# Altium footprint library PcbLib1.PcbLib: 38 footprints (part 3 of 3)
Each footprint in its own frame and in the unit in brackets; x right, y up, seen from the top. Pads: shape width x height; smd on the part's side, far side on the other; paste and mask are expansions set on the pad; w line width, h text height; cw(c..) or ccw(c..) is an arc to the next point about the centre after c.
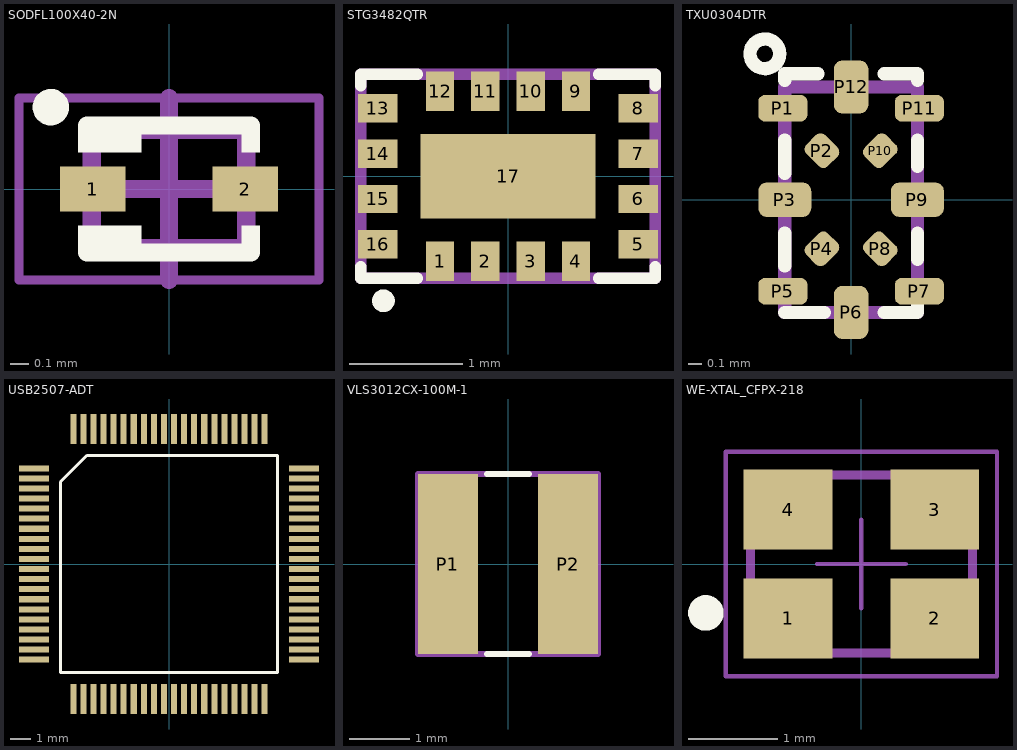
[diagram p2: the footprints below, top view; thin cyan lines are the x and y axes]

## SODFL100X40-2N [mm]
pads (2):
  rect 0.36x0.25 smd: 1(-0.42,0) 2(0.42,0)
Top Overlay:
  circle w0.1: c-0.65,0.45 r0.05
  rectangle: -0.5,0.2 -0.15,0.325
  rectangle: -0.5,-0.35 -0.15,-0.2
  rectangle: 0.4,-0.35 0.5,-0.2
  rectangle: 0.4,0.2 0.5,0.35
  lines w0.1: -0.45,-0.3 -0.45,-0.35 0.45,-0.35 0.45,-0.3 ; -0.45,0.3 -0.45,0.35 0.45,0.35 0.45,0.3
Top Designator:
  text ".Designator" at -0.724,-0.177 h0.38
Top Component Outline:
  lines w0.1: -0.425,-0.325 0.425,-0.325 0.425,0.325 -0.425,0.325 -0.425,-0.325
Top Courtyard:
  lines w0.05: -0.825,-0.5 -0.825,0.5 0.825,0.5 0.825,-0.5 -0.825,-0.5
  lines w0.1: -0.5,0 0.5,0 ; 0,-0.5 0,0.5
3D body "SODFL100X40-2N.step": height 0.4, standoff 0, extent -0.5,-0.325 0.5,0.325

## STG3482QTR [mm]
height 0.5
pads (17):
  rect 0.25x0.35 smd: 1(-0.6,-0.75) 2(-0.2,-0.75) 3(0.2,-0.75) 4(0.6,-0.75) 9(0.6,0.75) 10(0.2,0.75) 11(-0.2,0.75) 12(-0.6,0.75)
  rect 0.35x0.25 smd: 5(1.15,-0.6) 6(1.15,-0.2) 7(1.15,0.2) 8(1.15,0.6) 13(-1.15,0.6) 14(-1.15,0.2) 15(-1.15,-0.2) 16(-1.15,-0.6)
  rect 1.55x0.75 smd: 17(0,0)
Top Overlay:
  circle w0.1: c-1.1,-1.1 r0.05
  lines w0.1: -1.3,-0.8 -1.3,-0.9 -0.8,-0.9 ; -1.3,0.8 -1.3,0.9 -0.8,0.9 ; 0.8,-0.9 1.3,-0.9 1.3,-0.8 ; 0.8,0.9 1.3,0.9 1.3,0.8
Top Designator:
  text ".Designator" at 0,0 h0.6
Top Assembly:
  lines w0.1: -1.3,-0.9 -1.3,0.9 1.3,0.9 1.3,-0.9 -1.3,-0.9
Top Component Outline:
  lines w0.1: -1.3,-0.9 -1.3,0.9 1.3,0.9 1.3,-0.9 -1.3,-0.9

## TXU0304DTR [mm]
height 0.4
pads (12):
  rrect50% 0.37x0.2 smd mask+0.05: P1(-0.515,0.69) P5(-0.515,-0.69) P7(0.515,-0.69) P11(0.515,0.69)
  rrect50% 0.2x0.23 smd rot 45 mask+0.05: P2(-0.22,0.37) P8(0.22,-0.37)
  rrect50% 0.4x0.26 smd mask+0.05: P3(-0.5,0) P9(0.5,0)
  rrect50% 0.2x0.23 smd rot 135 mask+0.05: P4(-0.22,-0.37) P10(0.22,0.37)
  rrect50% 0.26x0.4 smd mask+0.05: P6(0,-0.85) P12(0,0.85)
Top Overlay:
  circle w0.1: c-0.65,1.1 r0.112
  lines w0.1: -0.5,-0.85 -0.2,-0.85 ; -0.5,-0.5 -0.5,-0.25 ; -0.5,0.2 -0.5,0.45 ; -0.5,0.9 -0.5,0.95 -0.25,0.95 ; 0.25,-0.85 0.5,-0.85 0.5,-0.8 ; 0.25,0.95 0.5,0.95 0.5,0.9 ; 0.5,-0.45 0.5,-0.25 ; 0.5,0.25 0.5,0.45
Top Designator:
  text ".Designator" at 0.1,0.3 h0.6
Top Assembly:
  lines w0.1: -0.5,-0.85 0.5,-0.85 0.5,0.85 -0.5,0.85 -0.5,-0.85
Top Component Outline:
  lines w0.1: -0.5,-0.85 0.5,-0.85 0.5,0.85 -0.5,0.85 -0.5,-0.85
3D body: height 0.4, standoff 0, extent -0.5,-0.85 0.5,0.85

## USB2507-ADT [mm]
pads (80):
  rect 1.5x0.3 smd: 1(-6.7,4.75) 2(-6.7,4.25) 3(-6.7,3.75) 4(-6.7,3.25) 5(-6.7,2.75) 6(-6.7,2.25) 7(-6.7,1.75) 8(-6.7,1.25) 9(-6.7,0.75) 10(-6.7,0.25) 11(-6.7,-0.25) 12(-6.7,-0.75) 13(-6.7,-1.25) 14(-6.7,-1.75) 15(-6.7,-2.25) 16(-6.7,-2.75) 17(-6.7,-3.25) 18(-6.7,-3.75) 19(-6.7,-4.25) 20(-6.7,-4.75) 41(6.7,-4.75) 42(6.7,-4.25) 43(6.7,-3.75) 44(6.7,-3.25) 45(6.7,-2.75) 46(6.7,-2.25) 47(6.7,-1.75) 48(6.7,-1.25) 49(6.7,-0.75) 50(6.7,-0.25) 51(6.7,0.25) 52(6.7,0.75) 53(6.7,1.25) 54(6.7,1.75) 55(6.7,2.25) 56(6.7,2.75) 57(6.7,3.25) 58(6.7,3.75) 59(6.7,4.25) 60(6.7,4.75)
  rect 0.3x1.5 smd: 21(-4.75,-6.7) 22(-4.25,-6.7) 23(-3.75,-6.7) 24(-3.25,-6.7) 25(-2.75,-6.7) 26(-2.25,-6.7) 27(-1.75,-6.7) 28(-1.25,-6.7) 29(-0.75,-6.7) 30(-0.25,-6.7) 31(0.25,-6.7) 32(0.75,-6.7) 33(1.25,-6.7) 34(1.75,-6.7) 35(2.25,-6.7) 36(2.75,-6.7) 37(3.25,-6.7) 38(3.75,-6.7) 39(4.25,-6.7) 40(4.75,-6.7) 61(4.75,6.7) 62(4.25,6.7) 63(3.75,6.7) 64(3.25,6.7) 65(2.75,6.7) 66(2.25,6.7) 67(1.75,6.7) 68(1.25,6.7) 69(0.75,6.7) 70(0.25,6.7) 71(-0.25,6.7) 72(-0.75,6.7) 73(-1.25,6.7) 74(-1.75,6.7) 75(-2.25,6.7) 76(-2.75,6.7) 77(-3.25,6.7) 78(-3.75,6.7) 79(-4.25,6.7) 80(-4.75,6.7)
Top Overlay:
  lines w0.15: -5.39,-5.39 5.39,-5.39 5.39,5.39 -4.08,5.39 -5.39,4.08 -5.39,-5.39
Top Designator:
  text ".Designator" at 0,0 h0.6

## VLS3012CX-100M-1 [mm]
height 1.2
pads (2):
  rect 1x3 smd: P1(-1,0) P2(1,0)
Top Overlay:
  lines w0.1: -0.35,-1.5 0.35,-1.5 ; -0.35,1.5 0.35,1.5
Top Designator:
  text ".Designator" at 0.1,0.3 h0.6
Top Assembly:
  lines w0.1: -1.5,-1.5 1.5,-1.5 1.5,1.5 -1.5,1.5 -1.5,-1.5
Top Component Outline:
  lines w0.1: -1.5,-1.5 1.5,-1.5 1.5,1.5 -1.5,1.5 -1.5,-1.5
3D body "vls3012cx-1.step": height 1.19, standoff -0.01, extent -1.502,-1.509 1.502,1.509

## WE-XTAL_CFPX-218 [mm] "Quartz Crystal, size CFPX-218, body 2.5x2mm"
height 0.6
pads (4):
  rect 1x0.9 smd: 1(-0.825,-0.613) 2(0.825,-0.613) 3(0.825,0.613) 4(-0.825,0.613)
Top Overlay:
  circle w0.2: c-1.75,-0.55 r0.1
Mechanical 11:
  lines w0.1: -1.25,-1 -1.25,1 1.25,1 1.25,-1 -1.25,-1
  text ".Designator" at -0.825,-0.35 h0.7
Top 3D Body:
  lines w0.1: -1.25,-1 1.25,-1 1.25,1 -1.25,1 -1.25,-1
Top Courtyard:
  lines w0.05: -0.5,0 0.5,0 ; 0,-0.5 0,0.5 ; -1.525,-1.262 1.525,-1.262 1.525,1.262 -1.525,1.262 -1.525,-1.262
3D body "FrqXTAL_CFPX-218.stp": height 0.55, standoff 0, extent -1.25,-1 1.25,1